# EAGLE library part PRIUS_INV (library FPGA_FOC_lib)
Connection for a Gen2 Prius inverter module
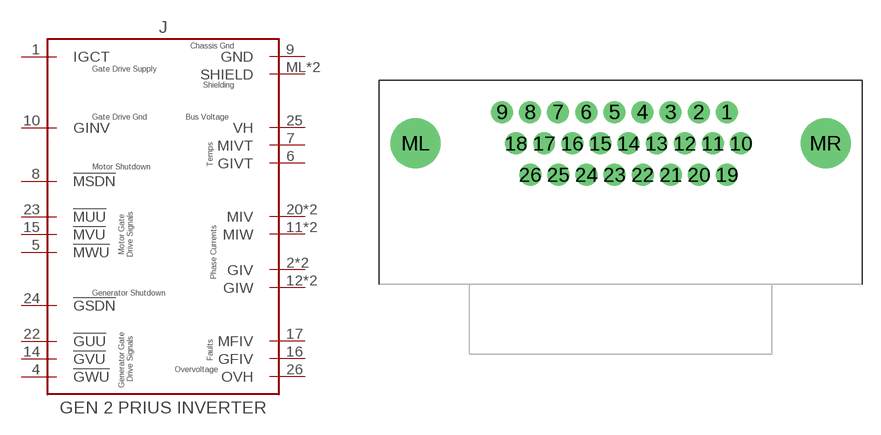
[diagram p5: symbol with the pads of L17HTHA; footprint L17HTHA]

Designator prefix J

## PRIUS_INV_DB26  [L17HTHA]
1  IGCT
2  GIV
3  GIV
4  !GWU
5  !MWU
6  GIVT
7  MIVT
8  !MSDN
9  GND
10  GINV
11  MIW
12  GIW
13  GIW
14  !GVU
15  !MVU
16  GFIV
17  MFIV
19  MIW
20  MIV
21  MIV
22  !GUU
23  !MUU
24  !GSDN
25  VH
26  OVH
ML  SHIELD
MR  SHIELD

## Footprint L17HTHA (pad centres in mm)
Drawing for amphenol DB26, right angle, high density, through hole, board lock connector digikey <https://www.digikey.com/product-detail/en/amphenol-icc-commercial-products/L17HTHAS4F1C/L17HTHAS4F1C-ND/4884969> catalog with drawings <https://signin.amphenolcanada.com/ProductSearch/Pdf/DSUB_CAT.pdf#Page=71> see page 73
drill 1.19: 1 8.63,13.97; 2 6.345,13.97; 3 4.06,13.97; 4 1.775,13.97; 5 -0.51,13.97; 6 -2.795,13.97; 7 -5.08,13.97; 8 -7.365,13.97; 9 -9.65,13.97; 10 9.78,11.43; 11 7.495,11.43; 12 5.21,11.43; 13 2.925,11.43; 14 0.64,11.43; 15 -1.645,11.43; 16 -3.93,11.43; 17 -6.215,11.43; 18 -8.5,11.43; 19 8.65,8.89; 20 6.365,8.89; 21 4.08,8.89; 22 1.795,8.89; 23 -0.49,8.89; 24 -2.775,8.89; 25 -5.06,8.89; 26 -7.345,8.89
drill 3.05: ML -16.66,11.43; MR 16.66,11.43